# EAGLE library part A500-EXPANSION (library Amiga)
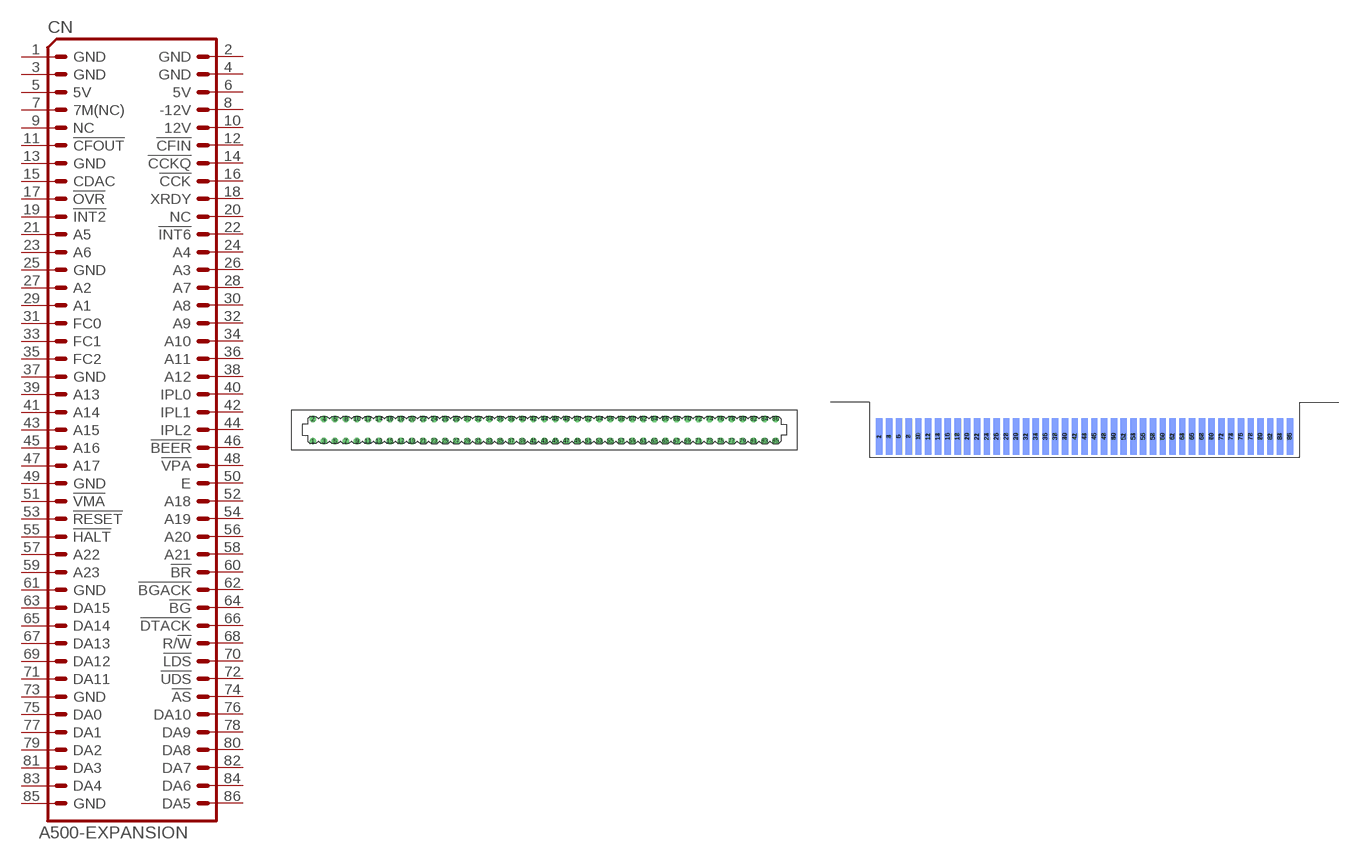
[diagram p13: symbol with the pads of SLOT_86; footprints SLOT_86, LKONT_43]

Designator prefix CN

## A500-EXPANSION_SLOT  [SLOT_86]
1  GND  pas
2  GND  pas
3  GND  pas
4  GND  pas
5  5V  pas
6  5V  pas
7  7M(NC)  pas
8  -12V  pas
9  NC  pas
10  12V  pas
11  !CFOUT!  pas
12  !CFIN!  pas
13  GND  pas
14  !CCKQ!  pas
15  CDAC  pas
16  !CCK!  pas
17  !OVR!  pas
18  XRDY  pas
19  !INT2!  pas
20  NC  pas
21  A5  pas
22  !INT6!  pas
23  A6  pas
24  A4  pas
25  GND  pas
26  A3  pas
27  A2  pas
28  A7  pas
29  A1  pas
30  A8  pas
31  FC0  pas
32  A9  pas
33  FC1  pas
34  A10  pas
35  FC2  pas
36  A11  pas
37  GND  pas
38  A12  pas
39  A13  pas
40  IPL0  pas
41  A14  pas
42  IPL1  pas
43  A15  pas
44  IPL2  pas
45  A16  pas
46  !BEER!  pas
47  A17  pas
48  !VPA!  pas
49  GND  pas
50  E  pas
51  !VMA!  pas
52  A18  pas
53  !RESET!  pas
54  A19  pas
55  !HALT!  pas
56  A20  pas
57  A22  pas
58  A21  pas
59  A23  pas
60  !BR!  pas
61  GND  pas
62  !BGACK!  pas
63  DA15  pas
64  !BG!  pas
65  DA14  pas
66  !DTACK!  pas
67  DA13  pas
68  R/!W!  pas
69  DA12  pas
70  !LDS!  pas
71  DA11  pas
72  !UDS!  pas
73  GND  pas
74  !AS!  pas
75  DA0  pas
76  DA10  pas
77  DA1  pas
78  DA9  pas
79  DA2  pas
80  DA8  pas
81  DA3  pas
82  DA7  pas
83  DA4  pas
84  DA6  pas
85  GND  pas
86  DA5  pas

## A500-EXPANSION_EDGE  [LKONT_43]
Pads as for SLOT_86

## A500-EXPANSION-SLOT-SOLDER  [LKONT_43-SLOT-SOLDER]
Pads as for SLOT_86

## A500-EXPANSION_EDGE_ROUND_W  [KONT_43_R]
Pads as for SLOT_86

## A500-EXPANSION_EDGE_ROUND  [LKONT_43_R]
Pads as for SLOT_86

## Footprint SLOT_86 (pad centres in mm)
drill 0.9 pad 1.5: 1 -53.34,-2.54
drill 0.9 pad 1.5 octagon: 2 -53.34,2.54; 3 -50.8,-2.54; 4 -50.8,2.54; 5 -48.26,-2.54; 6 -48.26,2.54; 7 -45.72,-2.54; 8 -45.72,2.54; 9 -43.18,-2.54; 10 -43.18,2.54; 11 -40.64,-2.54; 12 -40.64,2.54; 13 -38.1,-2.54; 14 -38.1,2.54; 15 -35.56,-2.54; 16 -35.56,2.54; 17 -33.02,-2.54; 18 -33.02,2.54; 19 -30.48,-2.54; 20 -30.48,2.54; 21 -27.94,-2.54; 22 -27.94,2.54; 23 -25.4,-2.54; 24 -25.4,2.54; 25 -22.86,-2.54; 26 -22.86,2.54; 27 -20.32,-2.54; 28 -20.32,2.54; 29 -17.78,-2.54; 30 -17.78,2.54; 31 -15.24,-2.54; 32 -15.24,2.54; 33 -12.7,-2.54; 34 -12.7,2.54; 35 -10.16,-2.54; 36 -10.16,2.54; 37 -7.62,-2.54; 38 -7.62,2.54; 39 -5.08,-2.54; 40 -5.08,2.54; 41 -2.54,-2.54; 42 -2.54,2.54; 43 0,-2.54; 44 0,2.54; 45 2.54,-2.54; 46 2.54,2.54; 47 5.08,-2.54; 48 5.08,2.54; 49 7.62,-2.54; 50 7.62,2.54; 51 10.16,-2.54; 52 10.16,2.54; 53 12.7,-2.54; 54 12.7,2.54; 55 15.24,-2.54; 56 15.24,2.54; 57 17.78,-2.54; 58 17.78,2.54; 59 20.32,-2.54; 60 20.32,2.54; 61 22.86,-2.54; 62 22.86,2.54; 63 25.4,-2.54; 64 25.4,2.54; 65 27.94,-2.54; 66 27.94,2.54; 67 30.48,-2.54; 68 30.48,2.54; 69 33.02,-2.54; 70 33.02,2.54; 71 35.56,-2.54; 72 35.56,2.54; 73 38.1,-2.54; 74 38.1,2.54; 75 40.64,-2.54; 76 40.64,2.54; 77 43.18,-2.54; 78 43.18,2.54; 79 45.72,-2.54; 80 45.72,2.54; 81 48.26,-2.54; 82 48.26,2.54; 83 50.8,-2.54; 84 50.8,2.54; 85 53.34,-2.54; 86 53.34,2.54

## Footprint LKONT_43 (pad centres in mm)
smd 1.65 x 9.5: 1 -53.34,0; 3 -50.8,0; 5 -48.26,0; 7 -45.72,0; 9 -43.18,0; 11 -40.64,0; 13 -38.1,0; 15 -35.56,0; 17 -33.02,0; 19 -30.48,0; 21 -27.94,0; 23 -25.4,0; 25 -22.86,0; 27 -20.32,0; 29 -17.78,0; 31 -15.24,0; 33 -12.7,0; 35 -10.16,0; 37 -7.62,0; 39 -5.08,0; 41 -2.54,0; 43 0,0; 45 2.54,0; 47 5.08,0; 49 7.62,0; 51 10.16,0; 53 12.7,0; 55 15.24,0; 57 17.78,0; 59 20.32,0; 61 22.86,0; 63 25.4,0; 65 27.94,0; 67 30.48,0; 69 33.02,0; 71 35.56,0; 73 38.1,0; 75 40.64,0; 77 43.18,0; 79 45.72,0; 81 48.26,0; 83 50.8,0; 85 53.34,0
smd 1.65 x 9.5 bottom: 2 -53.34,0; 4 -50.8,0; 6 -48.26,0; 8 -45.72,0; 10 -43.18,0; 12 -40.64,0; 14 -38.1,0; 16 -35.56,0; 18 -33.02,0; 20 -30.48,0; 22 -27.94,0; 24 -25.4,0; 26 -22.86,0; 28 -20.32,0; 30 -17.78,0; 32 -15.24,0; 34 -12.7,0; 36 -10.16,0; 38 -7.62,0; 40 -5.08,0; 42 -2.54,0; 44 0,0; 46 2.54,0; 48 5.08,0; 50 7.62,0; 52 10.16,0; 54 12.7,0; 56 15.24,0; 58 17.78,0; 60 20.32,0; 62 22.86,0; 64 25.4,0; 66 27.94,0; 68 30.48,0; 70 33.02,0; 72 35.56,0; 74 38.1,0; 76 40.64,0; 78 43.18,0; 80 45.72,0; 82 48.26,0; 84 50.8,0; 86 53.34,0

## Footprint LKONT_43-SLOT-SOLDER (pad centres in mm)
smd 1.65 x 9.5: 1 -53.34,5.08; 3 -50.8,5.08; 5 -48.26,5.08; 7 -45.72,5.08; 9 -43.18,5.08; 11 -40.64,5.08; 13 -38.1,5.08; 15 -35.56,5.08; 17 -33.02,5.08; 19 -30.48,5.08; 21 -27.94,5.08; 23 -25.4,5.08; 25 -22.86,5.08; 27 -20.32,5.08; 29 -17.78,5.08; 31 -15.24,5.08; 33 -12.7,5.08; 35 -10.16,5.08; 37 -7.62,5.08; 39 -5.08,5.08; 41 -2.54,5.08; 43 0,5.08; 45 2.54,5.08; 47 5.08,5.08; 49 7.62,5.08; 51 10.16,5.08; 53 12.7,5.08; 55 15.24,5.08; 57 17.78,5.08; 59 20.32,5.08; 61 22.86,5.08; 63 25.4,5.08; 65 27.94,5.08; 67 30.48,5.08; 69 33.02,5.08; 71 35.56,5.08; 73 38.1,5.08; 75 40.64,5.08; 77 43.18,5.08; 79 45.72,5.08; 81 48.26,5.08; 83 50.8,5.08; 85 53.34,5.08
smd 1.65 x 9.5 bottom: 2 -53.34,5.08; 4 -50.8,5.08; 6 -48.26,5.08; 8 -45.72,5.08; 10 -43.18,5.08; 12 -40.64,5.08; 14 -38.1,5.08; 16 -35.56,5.08; 18 -33.02,5.08; 20 -30.48,5.08; 22 -27.94,5.08; 24 -25.4,5.08; 26 -22.86,5.08; 28 -20.32,5.08; 30 -17.78,5.08; 32 -15.24,5.08; 34 -12.7,5.08; 36 -10.16,5.08; 38 -7.62,5.08; 40 -5.08,5.08; 42 -2.54,5.08; 44 0,5.08; 46 2.54,5.08; 48 5.08,5.08; 50 7.62,5.08; 52 10.16,5.08; 54 12.7,5.08; 56 15.24,5.08; 58 17.78,5.08; 60 20.32,5.08; 62 22.86,5.08; 64 25.4,5.08; 66 27.94,5.08; 68 30.48,5.08; 70 33.02,5.08; 72 35.56,5.08; 74 38.1,5.08; 76 40.64,5.08; 78 43.18,5.08; 80 45.72,5.08; 82 48.26,5.08; 84 50.8,5.08; 86 53.34,5.08

## Footprint KONT_43_R (pad centres in mm)
smd 1.27 x 7.62 bottom: 1 54.61,0; 3 52.07,0; 5 49.53,0; 7 46.99,0; 9 44.45,0; 11 41.91,0; 13 39.37,0; 15 36.83,0; 17 34.29,0; 19 31.75,0; 21 29.21,0; 23 26.67,0; 25 24.13,0; 27 21.59,0; 29 19.05,0; 31 16.51,0; 33 13.97,0; 35 11.43,0; 37 8.89,0; 39 6.35,0; 41 3.81,0; 43 1.27,0; 45 -1.27,0; 47 -3.81,0; 49 -6.35,0; 51 -8.89,0; 53 -11.43,0; 55 -13.97,0; 57 -16.51,0; 59 -19.05,0; 61 -21.59,0; 63 -24.13,0; 65 -26.67,0; 67 -29.21,0; 69 -31.75,0; 71 -34.29,0; 73 -36.83,0; 75 -39.37,0; 77 -41.91,0; 79 -44.45,0; 81 -46.99,0; 83 -49.53,0; 85 -52.07,0
smd 1.27 x 7.62: 2 54.61,0; 4 52.07,0; 6 49.53,0; 8 46.99,0; 10 44.45,0; 12 41.91,0; 14 39.37,0; 16 36.83,0; 18 34.29,0; 20 31.75,0; 22 29.21,0; 24 26.67,0; 26 24.13,0; 28 21.59,0; 30 19.05,0; 32 16.51,0; 34 13.97,0; 36 11.43,0; 38 8.89,0; 40 6.35,0; 42 3.81,0; 44 1.27,0; 46 -1.27,0; 48 -3.81,0; 50 -6.35,0; 52 -8.89,0; 54 -11.43,0; 56 -13.97,0; 58 -16.51,0; 60 -19.05,0; 62 -21.59,0; 64 -24.13,0; 66 -26.67,0; 68 -29.21,0; 70 -31.75,0; 72 -34.29,0; 74 -36.83,0; 76 -39.37,0; 78 -41.91,0; 80 -44.45,0; 82 -46.99,0; 84 -49.53,0; 86 -52.07,0

## Footprint LKONT_43_R (pad centres in mm)
smd 1.27 x 7.62 bottom: 1 57.15,0; 3 54.61,0; 5 52.07,0; 7 49.53,0; 9 46.99,0; 11 44.45,0; 13 41.91,0; 15 39.37,0; 17 36.83,0; 19 34.29,0; 21 31.75,0; 23 29.21,0; 25 26.67,0; 27 24.13,0; 29 21.59,0; 31 19.05,0; 33 16.51,0; 35 13.97,0; 37 11.43,0; 39 8.89,0; 41 6.35,0; 43 3.81,0; 45 1.27,0; 47 -1.27,0; 49 -3.81,0; 51 -6.35,0; 53 -8.89,0; 55 -11.43,0; 57 -13.97,0; 59 -16.51,0; 61 -19.05,0; 63 -21.59,0; 65 -24.13,0; 67 -26.67,0; 69 -29.21,0; 71 -31.75,0; 73 -34.29,0; 75 -36.83,0; 77 -39.37,0; 79 -41.91,0; 81 -44.45,0; 83 -46.99,0; 85 -49.53,0
smd 1.27 x 7.62: 2 57.15,0; 4 54.61,0; 6 52.07,0; 8 49.53,0; 10 46.99,0; 12 44.45,0; 14 41.91,0; 16 39.37,0; 18 36.83,0; 20 34.29,0; 22 31.75,0; 24 29.21,0; 26 26.67,0; 28 24.13,0; 30 21.59,0; 32 19.05,0; 34 16.51,0; 36 13.97,0; 38 11.43,0; 40 8.89,0; 42 6.35,0; 44 3.81,0; 46 1.27,0; 48 -1.27,0; 50 -3.81,0; 52 -6.35,0; 54 -8.89,0; 56 -11.43,0; 58 -13.97,0; 60 -16.51,0; 62 -19.05,0; 64 -21.59,0; 66 -24.13,0; 68 -26.67,0; 70 -29.21,0; 72 -31.75,0; 74 -34.29,0; 76 -36.83,0; 78 -39.37,0; 80 -41.91,0; 82 -44.45,0; 84 -46.99,0; 86 -49.53,0